# Altium schematic symbol library Battery_Charger_LTC4162.SchLib: 1 symbol
Pins are listed as number, name and electrical type; pins without a type are passive.

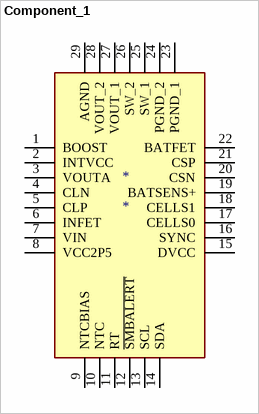
[diagram p0: symbol Component_1]

## Component_1
designator *
pins: 1 BOOST, 2 INTVCC, 3 VOUTA, 4 CLN, 5 CLP, 6 INFET, 7 VIN, 8 VCC2P5, 9 NTCBIAS, 10 NTC, 11 RT, 12 ~{SMBALERT}, 13 SCL, 14 SDA, 15 DVCC, 16 SYNC, 17 CELLS0, 18 CELLS1, 19 BATSENS+, 20 CSN, 21 CSP, 22 BATFET, 23 PGND_1, 24 PGND_2, 25 SW_1, 26 SW_2, 27 VOUT_1, 28 VOUT_2, 29 AGND